# Altium footprint library DCT.PcbLib: 1 footprints
Each footprint in its own frame and in the unit in brackets; x right, y up, seen from the top. Pads: shape width x height; smd on the part's side, far side on the other; paste and mask are expansions set on the pad; w line width, h text height; cw(c..) or ccw(c..) is an arc to the next point about the centre after c.
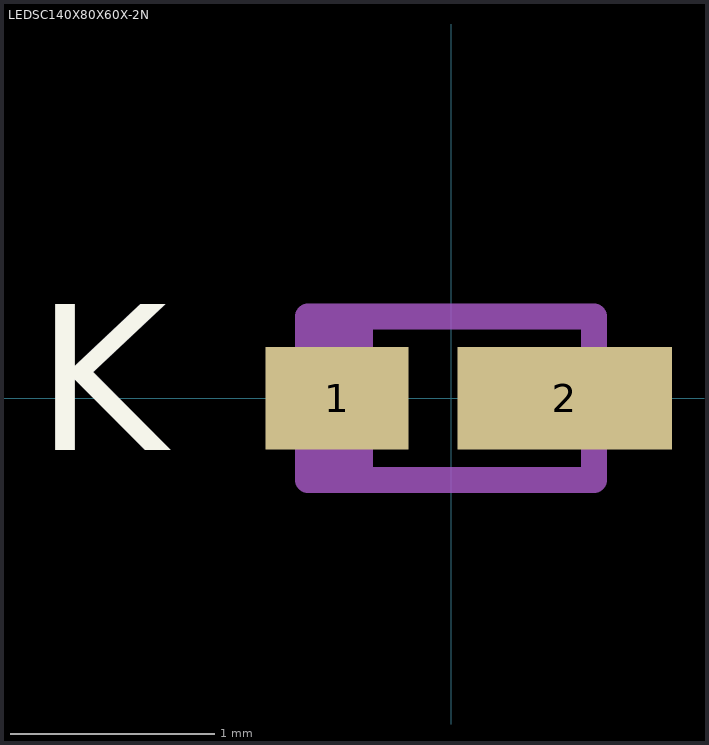
[diagram p0: the footprint, top view; thin cyan lines are the x and y axes]

## LEDSC140X80X60X-2N [mm] "Standard LEDs - SMD Yellow TOPLED E1608"
height 0.6
pads (2):
  rect 0.7x0.5 smd mask+0.076: 1(-0.557,0)
  rect 1.05x0.5 smd mask+0.076: 2(0.557,0)
Top Overlay:
  text "K" at -2.032,-0.254 h1.02
Mechanical 1:
  text "'.Designator'" at 0,0 h1.52
Mechanical 15:
  rectangle: -0.673,-0.4 -0.381,0.4
  lines w0.127: -0.7,-0.4 -0.7,0.4 0.7,0.4 0.7,-0.4 -0.7,-0.4
3D body "KY_DELPS1_22_20160713_geometry.STEP": height 0.6, standoff 0, extent -0.8,-0.4 0.8,0.4